# Altium integrated library Analog Devices Temperature Sensors.IntLib: 271 symbols (part 11 of 14)
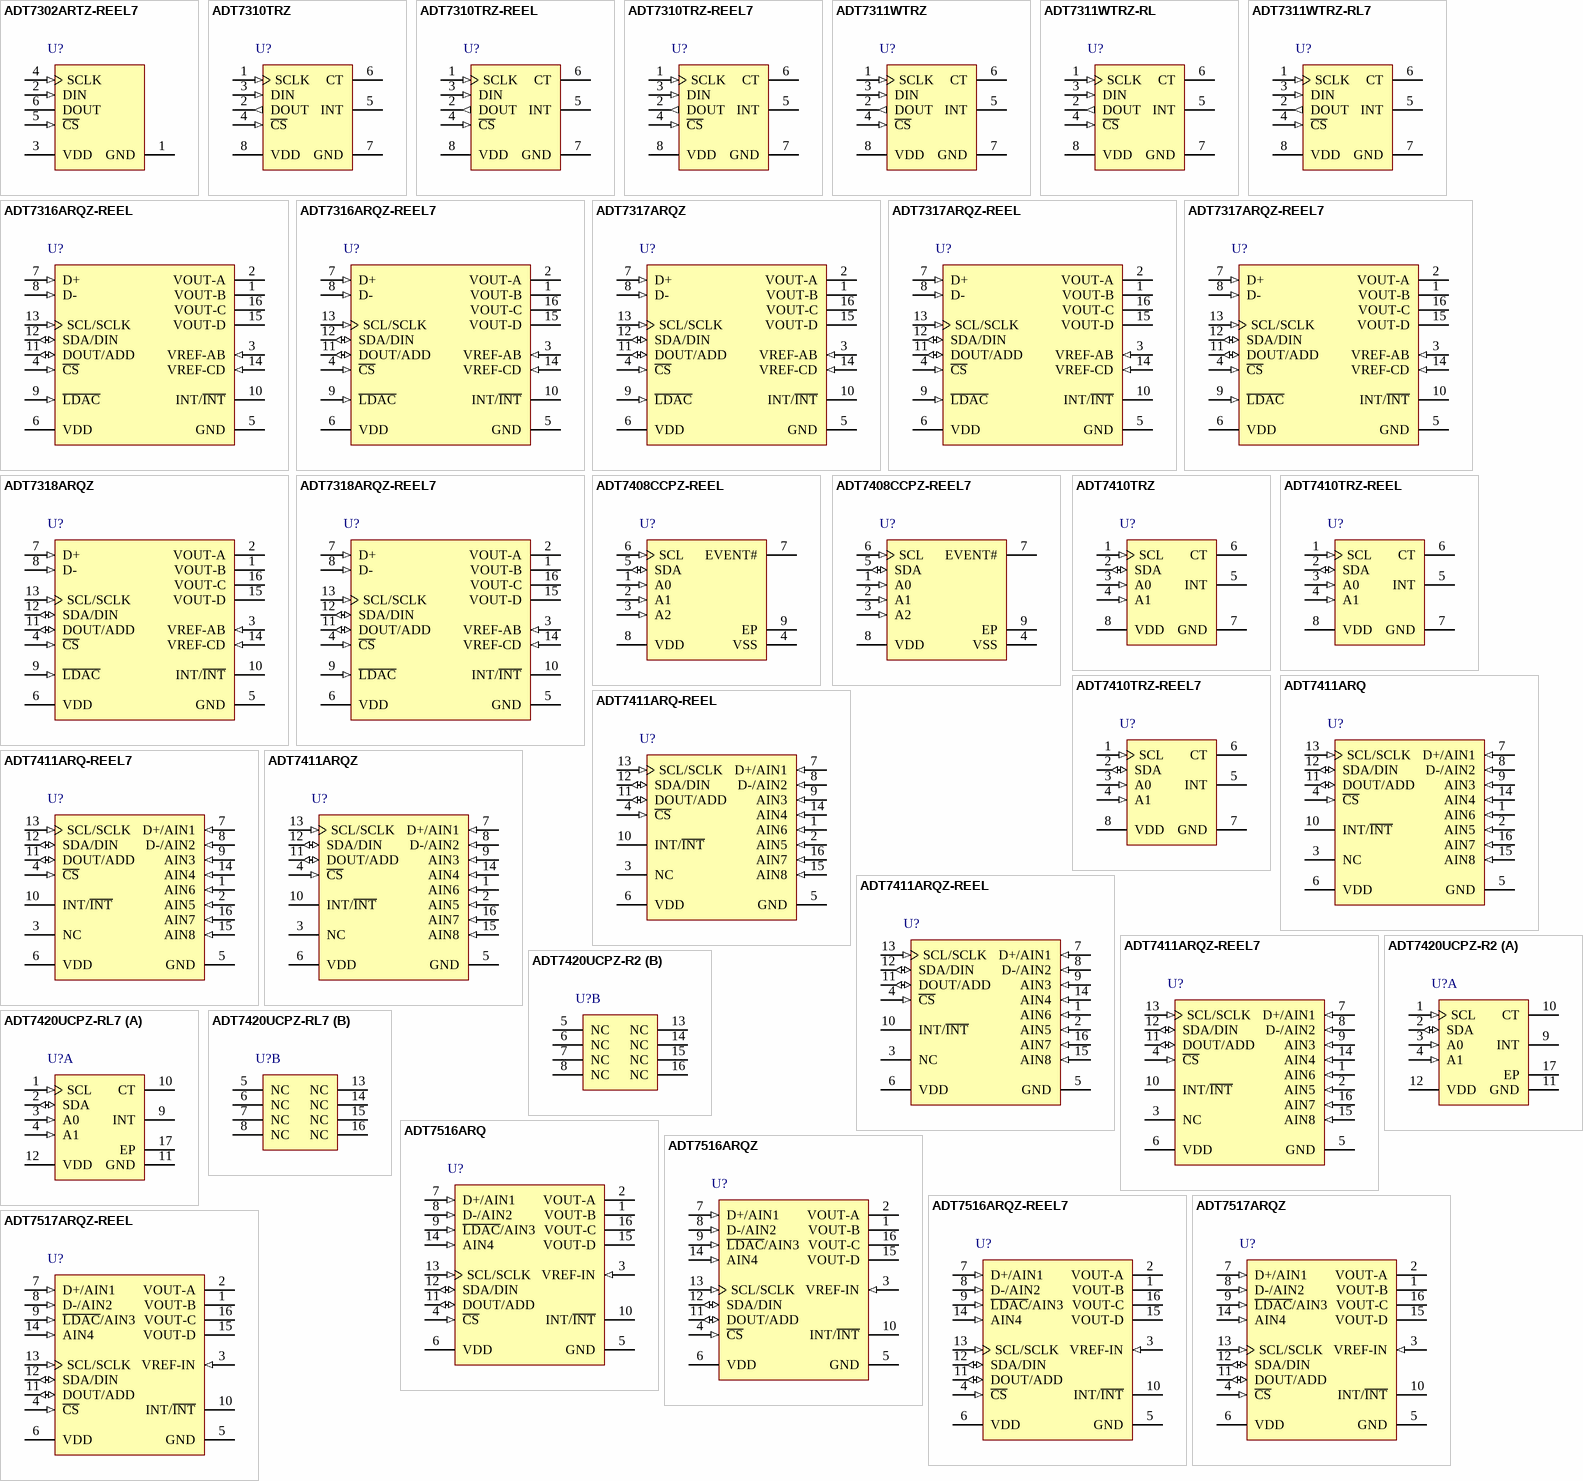
[diagram p17: symbols ADT7302ARTZ-REEL7 to ADT7517ARQZ-REEL]

## ADT7318ARQZ
designator U?
+/-0.5 degrees C Accurate Digital Temperature Sensor and Quad Voltage Output 8-Bit DAC, 2.7 to 5.5 V Supply, Industrial, 16-pin SOP (RQ-16), Tube; Manufacturer: Analog Devices; PartNumber: ADT7318ARQZ; #_ADC_channels: 1; #_DAC_channels: 4; DatasheetVersion: Rev. B; PackageVersion: 08/2005; PackageReference: RQ-16; PackageDescription: 16-Pin Shrink Small Outline Package, Body 4.9 x 3.9 mm, Pitch 0.64 mm; Supplier 1: Digi-Key; Supplier Part Number 1: ADT7318ARQZ-ND; Supplier 2: Mouser; Supplier Part Number 2: N/A; Packing: Tube; Supply Voltage Range: 2.7 to 5.5 V; Mounting Technology: Surface Mount; Code_JEDEC: MO-137-AB; ComponentLink1Description: Manufacturer URL; ComponentLink1URL: http://www.analog.com/en/index.html; ComponentLink2Description: Datasheet; ComponentLink2URL: http://www.analog.com/static/imported-files/data_sheets/ADT7316_7317_7318.pdf; ComponentLink3Description: Package Specification; ComponentLink3URL: http://www.analog.com/static/imported-files/packages/5595549651201762937RQ_16.pdf; ComponentLink4Description: Product URL; ComponentLink4URL: http://www.analog.com/en/mems-sensors/digital-temperature-sensors/adt7318/products/product.html
footprint ADI-RQ-16_N (SOP, 16-Leads, Body 4.9x3.9mm, Pitch 0.64mm, IPC Medium Density)
footprint ADI-RQ-16_L (SOP, 16-Leads, Body 4.9x3.9mm, Pitch 0.64mm, IPC High Density)
footprint ADI-RQ-16_M (SOP, 16-Leads, Body 4.9x3.9mm, Pitch 0.64mm, IPC Low Density)
pins: 1 VOUT-B (hiz) "Buffered Analog Output Voltage from DAC B. The output amplifier has rail-to-rail operation.", 2 VOUT-A (hiz) "Buffered Analog Output Voltage from DAC A. The output amplifier has rail-to-rail operation.", 3 VREF-AB (in) "Reference Input Pin for DAC A and DAC B. It may be configured as a buffered or unbuffered input to both DAC A and DAC B. It has an input range from 0.25 V to VDD in unbuffered mode and from 1 V to VDD in buffered mode. DAC A (See Datasheet)", 4 ~{CS} (in) "SPI Active Low Control Input. This is the frame synchronization signal for the input data. When C\S\ goes low, it enables the input register, and data is transferred in on the rising edges and out on the falling edges of the (See Datasheet)", 5 GND (power) "Ground Reference Point for All Circuitry on the Part. Analog and digital ground.", 6 VDD (power) "Positive Supply Voltage, 2.7 V to 5.5 V. The supply should be decoupled to ground.", 7 D+ (in) "Positive connection to external temperature sensor.", 8 D- (in) "Negative connection to external temperature sensor.", 9 ~{LDAC} (in) "Active low control input that transfers the contents of the input registers to their respective DAC registers. A falling edge on this pin forces any or all DAC registers to be updated if the input registers have new data. A (See Datasheet)", 10 INT/~{INT} (oc) "Over-Limit Interrupt. The output polarity of this pin can be set to give an active low or active high interrupt when temperature or VDD limits are exceeded. Default is active low. Open-drain output-needs a pull-up resistor.", 11 DOUT/ADD (io) "DOUT: SPI Serial Data Output. Logic output. Data is clocked out of any register at this pin. Data is clocked out on the falling edge of SCLK. Open-drain output-needs a pull-up resistor. ADD: I2C Serial Bus Address Selection (See Datasheet)", 12 SDA/DIN (io) "SDA: I2C Serial Data Input. I2C serial data that is loaded into the device registers is provided on this input. Open-drain configuration-needs a pull-up resistor. DIN: SPI Serial Data Input. Serial data to be loaded into the (See Datasheet)", 13 SCL/SCLK (in) "Serial Clock Input. This is the clock input for the serial port. The serial clock is used to clock data out of any register of the ADT7316/ADT7317/ADT7318 and also to clock data into any register that can be written to. (See Datasheet)", 14 VREF-CD (in) "Reference Input Pin for DAC C and DAC D. It can be configured as a buffered or unbuffered input to both DAC C and DAC D. It has an input range from 0.25 V to VDD in unbuffered mode and from 1 V to VDD in buffered mode. DAC C (See Datasheet)", 15 VOUT-D (hiz) "Buffered Analog Output Voltage from DAC D. The output amplifier has rail-to-rail operation.", 16 VOUT-C (hiz) "Buffered Analog Output Voltage from DAC C. The output amplifier has rail-to-rail operation."

## ADT7318ARQZ-REEL7
designator U?
+/-0.5 degrees C Accurate Digital Temperature Sensor and Quad Voltage Output 8-Bit DAC, 2.7 to 5.5 V Supply, Industrial, 16-pin SOP (RQ-16), Reel; Manufacturer: Analog Devices; PartNumber: ADT7318ARQZ-REEL7; #_ADC_channels: 1; #_DAC_channels: 4; DatasheetVersion: Rev. B; PackageVersion: 08/2005; PackageReference: RQ-16; PackageDescription: 16-Pin Shrink Small Outline Package, Body 4.9 x 3.9 mm, Pitch 0.64 mm; Supplier 1: Digi-Key; Supplier Part Number 1: ADT7318ARQZ-REEL7-ND; Supplier 2: Mouser; Supplier Part Number 2: N/A; Packing: Reel; Supply Voltage Range: 2.7 to 5.5 V; Mounting Technology: Surface Mount; Code_JEDEC: MO-137-AB; ComponentLink1Description: Manufacturer URL; ComponentLink1URL: http://www.analog.com/en/index.html; ComponentLink2Description: Datasheet; ComponentLink2URL: http://www.analog.com/static/imported-files/data_sheets/ADT7316_7317_7318.pdf; ComponentLink3Description: Package Specification; ComponentLink3URL: http://www.analog.com/static/imported-files/packages/5595549651201762937RQ_16.pdf; ComponentLink4Description: Product URL; ComponentLink4URL: http://www.analog.com/en/mems-sensors/digital-temperature-sensors/adt7318/products/product.html
footprint ADI-RQ-16_N (SOP, 16-Leads, Body 4.9x3.9mm, Pitch 0.64mm, IPC Medium Density)
footprint ADI-RQ-16_L (SOP, 16-Leads, Body 4.9x3.9mm, Pitch 0.64mm, IPC High Density)
footprint ADI-RQ-16_M (SOP, 16-Leads, Body 4.9x3.9mm, Pitch 0.64mm, IPC Low Density)
pins: 1 VOUT-B (hiz) "Buffered Analog Output Voltage from DAC B. The output amplifier has rail-to-rail operation.", 2 VOUT-A (hiz) "Buffered Analog Output Voltage from DAC A. The output amplifier has rail-to-rail operation.", 3 VREF-AB (in) "Reference Input Pin for DAC A and DAC B. It may be configured as a buffered or unbuffered input to both DAC A and DAC B. It has an input range from 0.25 V to VDD in unbuffered mode and from 1 V to VDD in buffered mode. DAC A (See Datasheet)", 4 ~{CS} (in) "SPI Active Low Control Input. This is the frame synchronization signal for the input data. When C\S\ goes low, it enables the input register, and data is transferred in on the rising edges and out on the falling edges of the (See Datasheet)", 5 GND (power) "Ground Reference Point for All Circuitry on the Part. Analog and digital ground.", 6 VDD (power) "Positive Supply Voltage, 2.7 V to 5.5 V. The supply should be decoupled to ground.", 7 D+ (in) "Positive connection to external temperature sensor.", 8 D- (in) "Negative connection to external temperature sensor.", 9 ~{LDAC} (in) "Active low control input that transfers the contents of the input registers to their respective DAC registers. A falling edge on this pin forces any or all DAC registers to be updated if the input registers have new data. A (See Datasheet)", 10 INT/~{INT} (oc) "Over-Limit Interrupt. The output polarity of this pin can be set to give an active low or active high interrupt when temperature or VDD limits are exceeded. Default is active low. Open-drain output-needs a pull-up resistor.", 11 DOUT/ADD (io) "DOUT: SPI Serial Data Output. Logic output. Data is clocked out of any register at this pin. Data is clocked out on the falling edge of SCLK. Open-drain output-needs a pull-up resistor. ADD: I2C Serial Bus Address Selection (See Datasheet)", 12 SDA/DIN (io) "SDA: I2C Serial Data Input. I2C serial data that is loaded into the device registers is provided on this input. Open-drain configuration-needs a pull-up resistor. DIN: SPI Serial Data Input. Serial data to be loaded into the (See Datasheet)", 13 SCL/SCLK (in) "Serial Clock Input. This is the clock input for the serial port. The serial clock is used to clock data out of any register of the ADT7316/ADT7317/ADT7318 and also to clock data into any register that can be written to. (See Datasheet)", 14 VREF-CD (in) "Reference Input Pin for DAC C and DAC D. It can be configured as a buffered or unbuffered input to both DAC C and DAC D. It has an input range from 0.25 V to VDD in unbuffered mode and from 1 V to VDD in buffered mode. DAC C (See Datasheet)", 15 VOUT-D (hiz) "Buffered Analog Output Voltage from DAC D. The output amplifier has rail-to-rail operation.", 16 VOUT-C (hiz) "Buffered Analog Output Voltage from DAC C. The output amplifier has rail-to-rail operation."

## ADT7408CCPZ-REEL
designator U?
+/-2 degrees C Accurate, 12-Bit Digital Temperature Sensor, 3 to 3.6 V Supply, Industrial, 8-pin QFN (CP-8-2), Reel; Manufacturer: Analog Devices; PartNumber: ADT7408CCPZ-REEL; DatasheetVersion: Rev. 0; PackageVersion: 061507-B, 06/2007; PackageReference: CP-8-2; PackageDescription: 8-Pin Lead Frame Chip Scale Package, Body 3 x 3 mm, Pitch 0.5 mm; Supplier 1: Digi-Key; Supplier Part Number 1: ADT7408CCPZ-REEL-ND; Supplier 2: Mouser; Supplier Part Number 2: 584-ADT7408CCPZ-R; Packing: Reel; Supply Voltage Range: 3 to 3.6 V; Mounting Technology: Surface Mount; ComponentLink1Description: Manufacturer URL; ComponentLink1URL: http://www.analog.com/en/index.html; ComponentLink2Description: Datasheet; ComponentLink2URL: http://www.analog.com/static/imported-files/data_sheets/ADT7408.pdf; ComponentLink3Description: Package Specification; ComponentLink3URL: http://www.analog.com/static/imported-files/packages/56953322593982CP_8_2.pdf; ComponentLink4Description: Product URL; ComponentLink4URL: http://www.analog.com/en/mems-sensors/digital-temperature-sensors/adt7408/products/product.html
footprint ADI-CP-8-2_N (QFN, 8-Leads, Body 3x3mm, Pitch 0.5mm, Thermal Pad 1.45X1.74mm, IPC Medium Density)
footprint ADI-CP-8-2_L (QFN, 8-Leads, Body 3x3mm, Pitch 0.5mm, Thermal Pad 1.45X1.74mm, IPC High Density)
footprint ADI-CP-8-2_M (QFN, 8-Leads, Body 3x3mm, Pitch 0.5mm, Thermal Pad 1.45X1.74mm, IPC Low Density)
pins: 1 A0 (in) "SMBus/I2C Serial Bus Address Selection Pin. Logic input. Can be set to VSS or VDD.", 2 A1 (in) "SMBus/I2C Serial Bus Address Selection Pin. Logic input. Can be set to VSS or VDD.", 3 A2 (in) "SMBus/I2C Serial Bus Address Selection Pin. Logic input. Can be set to VSS or VDD.", 4 VSS (power) "Negative Supply or Ground.", 5 SDA (io) "SMBus/I2C Serial Data Input/Output. Serial data to be loaded into the part’s registers and read from these registers is provided on this pin. Open-drain configuration; it needs a pull-up resistor.", 6 SCL (in) "Serial Clock Input. This is the clock input for the serial port. The serial clock is used to clock data into and clock dataout from any register of the ADT7408. Open-drain configuration needs a pull-up resistor.", 7 EVENT# (oc) "Active Low. Open-drain event output pin. Driven low on comparator level or alert interrupt.", 8 VDD (power) "Positive Supply Power. The supply should be decoupled to ground.", 9 EP "EXPOSED PAD"

## ADT7408CCPZ-REEL7
designator U?
+/-2 degrees C Accurate, 12-Bit Digital Temperature Sensor, 3 to 3.6 V Supply, Industrial, 8-pin QFN (CP-8-2), Reel; Manufacturer: Analog Devices; PartNumber: ADT7408CCPZ-REEL7; DatasheetVersion: Rev. 0; PackageVersion: 061507-B, 06/2007; PackageReference: CP-8-2; PackageDescription: 8-Pin Lead Frame Chip Scale Package, Body 3 x 3 mm, Pitch 0.5 mm; Supplier 1: Digi-Key; Supplier Part Number 1: ADT7408CCPZ-REEL7TR-ND; Supplier 2: Digi-Key; Supplier Part Number 2: ADT7408CCPZ-REEL7CT-ND; Supplier 3: Digi-Key; Supplier Part Number 3: ADT7408CCPZ-REEL7DKR-ND; Supplier 4: Newark; Supplier Part Number 4: 12M8291; Supplier 5: Mouser; Supplier Part Number 5: 584-ADT7408CCPZ-R7; Packing: Reel; Supply Voltage Range: 3 to 3.6 V; Mounting Technology: Surface Mount; ComponentLink1Description: Manufacturer URL; ComponentLink1URL: http://www.analog.com/en/index.html; ComponentLink2Description: Datasheet; ComponentLink2URL: http://www.analog.com/static/imported-files/data_sheets/ADT7408.pdf; ComponentLink3Description: Package Specification; ComponentLink3URL: http://www.analog.com/static/imported-files/packages/56953322593982CP_8_2.pdf; ComponentLink4Description: Product URL; ComponentLink4URL: http://www.analog.com/en/mems-sensors/digital-temperature-sensors/adt7408/products/product.html
footprint ADI-CP-8-2_N (QFN, 8-Leads, Body 3x3mm, Pitch 0.5mm, Thermal Pad 1.45X1.74mm, IPC Medium Density)
footprint ADI-CP-8-2_L (QFN, 8-Leads, Body 3x3mm, Pitch 0.5mm, Thermal Pad 1.45X1.74mm, IPC High Density)
footprint ADI-CP-8-2_M (QFN, 8-Leads, Body 3x3mm, Pitch 0.5mm, Thermal Pad 1.45X1.74mm, IPC Low Density)
pins: 1 A0 (in) "SMBus/I2C Serial Bus Address Selection Pin. Logic input. Can be set to VSS or VDD.", 2 A1 (in) "SMBus/I2C Serial Bus Address Selection Pin. Logic input. Can be set to VSS or VDD.", 3 A2 (in) "SMBus/I2C Serial Bus Address Selection Pin. Logic input. Can be set to VSS or VDD.", 4 VSS (power) "Negative Supply or Ground.", 5 SDA (io) "SMBus/I2C Serial Data Input/Output. Serial data to be loaded into the part’s registers and read from these registers is provided on this pin. Open-drain configuration; it needs a pull-up resistor.", 6 SCL (in) "Serial Clock Input. This is the clock input for the serial port. The serial clock is used to clock data into and clock dataout from any register of the ADT7408. Open-drain configuration needs a pull-up resistor.", 7 EVENT# (oc) "Active Low. Open-drain event output pin. Driven low on comparator level or alert interrupt.", 8 VDD (power) "Positive Supply Power. The supply should be decoupled to ground.", 9 EP "EXPOSED PAD"

## ADT7410TRZ
designator U?
+/-0.5 degrees C Accurate, 16-Bit Digital I2C Temperature Sensor, 2.7 to 5.5 V Supply, Military, 8-pin SOIC (R-8), Tube; Manufacturer: Analog Devices; PartNumber: ADT7410TRZ; DatasheetVersion: Rev. A; PackageVersion: 060506-A, 06/2006; PackageReference: R-8; PackageDescription: 8-Pin Standard Small Outline Package, Body 4.9 x 3.9 mm, Pitch 1.27 mm; Supplier 1: Digi-Key; Supplier Part Number 1: ADT7410TRZ-ND; Supplier 2: Farnell; Supplier Part Number 2: 2102534; Supplier 3: Newark; Supplier Part Number 3: 08R6646; Supplier 4: Mouser; Supplier Part Number 4: 584-ADT7410TRZ; Packing: Tube; Supply Voltage Range: 2.7 to 5.5 V; Mounting Technology: Surface Mount; Code_JEDEC: MS-012-AA; ComponentLink1Description: Manufacturer URL; ComponentLink1URL: http://www.analog.com/en/index.html; ComponentLink2Description: Datasheet; ComponentLink2URL: http://www.analog.com/static/imported-files/data_sheets/ADT7410.pdf; ComponentLink3Description: Package Specification; ComponentLink3URL: http://www.analog.com/static/imported-files/packages/PKG_PDF/SOIC_Narrow%20(R)/R_8.pdf; ComponentLink4Description: Product URL; ComponentLink4URL: http://www.analog.com/en/mems-sensors/digital-temperature-sensors/adt7410/products/product.html
footprint ADI-R-8_N (SOIC, 8-Leads, Body 4.9x3.9mm, Pitch 1.27mm, IPC Medium Density)
footprint ADI-R-8_L (SOIC, 8-Leads, Body 4.9x3.9mm, Pitch 1.27mm, IPC High Density)
footprint ADI-R-8_M (SOIC, 8-Leads, Body 4.9x3.9mm, Pitch 1.27mm, IPC Low Density)
pins: 1 SCL (in) "I2C Serial Clock Input. The serial clock is used to clock in and clock out data to and from any register of the ADT7410. Open-drain configuration. A pull-up resistor is required, typically 10 k ohm.", 2 SDA (io) "I2C Serial Data Input/Output. Serial data to and from the part is provided on this pin. Open-drain configuration. A pull-up resistor is required, typically 10 k ohm.", 3 A0 (in) "I2C Serial Bus Address Selection Pin. Logic input. Connect to GND or VDD to set an I2C address.", 4 A1 (in) "I2C Serial Bus Address Selection Pin. Logic input. Connect to GND or VDD to set an I2C address.", 5 INT (oc) "Overtemperature and Undertemperature Indicator. Logic output. Power-up default setting is as an active low comparator interrupt. Open-drain configuration. A pull-up resistor is required, typically 10 k ohm.", 6 CT (oc) "Critical Overtemperature Indicator. Logic output. Power-up default polarity is active low. Open-drain configuration. A pull-up resistor is required, typically 10 k ohm.", 7 GND (power) "Analog and Digital Ground.", 8 VDD (power) "Positive Supply Voltage (2.7 V to 5.5 V). The supply should be decoupled with a 0.1 uF ceramic capacitor to ground."

## ADT7410TRZ-REEL
designator U?
+/-0.5 degrees C Accurate, 16-Bit Digital I2C Temperature Sensor, 2.7 to 5.5 V Supply, Military, 8-pin SOIC (R-8), Reel; Manufacturer: Analog Devices; PartNumber: ADT7410TRZ-REEL; DatasheetVersion: Rev. A; PackageVersion: 060506-A, 06/2006; PackageReference: R-8; PackageDescription: 8-Pin Standard Small Outline Package, Body 4.9 x 3.9 mm, Pitch 1.27 mm; Supplier 1: Digi-Key; Supplier Part Number 1: ADT7410TRZ-REEL-ND; Supplier 2: Newark; Supplier Part Number 2: 08R6647; Supplier 3: Mouser; Supplier Part Number 3: 584-ADT7410TRZ-R; Packing: Reel; Supply Voltage Range: 2.7 to 5.5 V; Mounting Technology: Surface Mount; Code_JEDEC: MS-012-AA; ComponentLink1Description: Manufacturer URL; ComponentLink1URL: http://www.analog.com/en/index.html; ComponentLink2Description: Datasheet; ComponentLink2URL: http://www.analog.com/static/imported-files/data_sheets/ADT7410.pdf; ComponentLink3Description: Package Specification; ComponentLink3URL: http://www.analog.com/static/imported-files/packages/PKG_PDF/SOIC_Narrow%20(R)/R_8.pdf; ComponentLink4Description: Product URL; ComponentLink4URL: http://www.analog.com/en/mems-sensors/digital-temperature-sensors/adt7410/products/product.html
footprint ADI-R-8_N (SOIC, 8-Leads, Body 4.9x3.9mm, Pitch 1.27mm, IPC Medium Density)
footprint ADI-R-8_L (SOIC, 8-Leads, Body 4.9x3.9mm, Pitch 1.27mm, IPC High Density)
footprint ADI-R-8_M (SOIC, 8-Leads, Body 4.9x3.9mm, Pitch 1.27mm, IPC Low Density)
pins: 1 SCL (in) "I2C Serial Clock Input. The serial clock is used to clock in and clock out data to and from any register of the ADT7410. Open-drain configuration. A pull-up resistor is required, typically 10 k ohm.", 2 SDA (io) "I2C Serial Data Input/Output. Serial data to and from the part is provided on this pin. Open-drain configuration. A pull-up resistor is required, typically 10 k ohm.", 3 A0 (in) "I2C Serial Bus Address Selection Pin. Logic input. Connect to GND or VDD to set an I2C address.", 4 A1 (in) "I2C Serial Bus Address Selection Pin. Logic input. Connect to GND or VDD to set an I2C address.", 5 INT (oc) "Overtemperature and Undertemperature Indicator. Logic output. Power-up default setting is as an active low comparator interrupt. Open-drain configuration. A pull-up resistor is required, typically 10 k ohm.", 6 CT (oc) "Critical Overtemperature Indicator. Logic output. Power-up default polarity is active low. Open-drain configuration. A pull-up resistor is required, typically 10 k ohm.", 7 GND (power) "Analog and Digital Ground.", 8 VDD (power) "Positive Supply Voltage (2.7 V to 5.5 V). The supply should be decoupled with a 0.1 uF ceramic capacitor to ground."

## ADT7410TRZ-REEL7
designator U?
+/-0.5 degrees C Accurate, 16-Bit Digital I2C Temperature Sensor, 2.7 to 5.5 V Supply, Military, 8-pin SOIC (R-8), Reel; Manufacturer: Analog Devices; PartNumber: ADT7410TRZ-REEL7; DatasheetVersion: Rev. A; PackageVersion: 060506-A, 06/2006; PackageReference: R-8; PackageDescription: 8-Pin Standard Small Outline Package, Body 4.9 x 3.9 mm, Pitch 1.27 mm; Supplier 1: Digi-Key; Supplier Part Number 1: ADT7410TRZ-REEL7TR-ND; Supplier 2: Digi-Key; Supplier Part Number 2: ADT7410TRZ-REEL7CT-ND; Supplier 3: Digi-Key; Supplier Part Number 3: ADT7410TRZ-REEL7DKR-ND; Supplier 4: Newark; Supplier Part Number 4: 08R6648; Supplier 5: Mouser; Supplier Part Number 5: 584-ADT7410TRZ-R7; Packing: Reel; Supply Voltage Range: 2.7 to 5.5 V; Mounting Technology: Surface Mount; Code_JEDEC: MS-012-AA; ComponentLink1Description: Manufacturer URL; ComponentLink1URL: http://www.analog.com/en/index.html; ComponentLink2Description: Datasheet; ComponentLink2URL: http://www.analog.com/static/imported-files/data_sheets/ADT7410.pdf; ComponentLink3Description: Package Specification; ComponentLink3URL: http://www.analog.com/static/imported-files/packages/PKG_PDF/SOIC_Narrow%20(R)/R_8.pdf; ComponentLink4Description: Product URL; ComponentLink4URL: http://www.analog.com/en/mems-sensors/digital-temperature-sensors/adt7410/products/product.html
footprint ADI-R-8_N (SOIC, 8-Leads, Body 4.9x3.9mm, Pitch 1.27mm, IPC Medium Density)
footprint ADI-R-8_L (SOIC, 8-Leads, Body 4.9x3.9mm, Pitch 1.27mm, IPC High Density)
footprint ADI-R-8_M (SOIC, 8-Leads, Body 4.9x3.9mm, Pitch 1.27mm, IPC Low Density)
pins: 1 SCL (in) "I2C Serial Clock Input. The serial clock is used to clock in and clock out data to and from any register of the ADT7410. Open-drain configuration. A pull-up resistor is required, typically 10 k ohm.", 2 SDA (io) "I2C Serial Data Input/Output. Serial data to and from the part is provided on this pin. Open-drain configuration. A pull-up resistor is required, typically 10 k ohm.", 3 A0 (in) "I2C Serial Bus Address Selection Pin. Logic input. Connect to GND or VDD to set an I2C address.", 4 A1 (in) "I2C Serial Bus Address Selection Pin. Logic input. Connect to GND or VDD to set an I2C address.", 5 INT (oc) "Overtemperature and Undertemperature Indicator. Logic output. Power-up default setting is as an active low comparator interrupt. Open-drain configuration. A pull-up resistor is required, typically 10 k ohm.", 6 CT (oc) "Critical Overtemperature Indicator. Logic output. Power-up default polarity is active low. Open-drain configuration. A pull-up resistor is required, typically 10 k ohm.", 7 GND (power) "Analog and Digital Ground.", 8 VDD (power) "Positive Supply Voltage (2.7 V to 5.5 V). The supply should be decoupled with a 0.1 uF ceramic capacitor to ground."

## ADT7411ARQ
designator U?
SPI / I2C Compatible, 10-Bit Digital Temperature Sensor and 8-Channel A / D Converter, 2.7 to 5.5 V Supply, Industrial, 16-pin SOP (RQ-16), Tube; Manufacturer: Analog Devices; PartNumber: ADT7411ARQ; #_ADC_channels: 8; DatasheetVersion: Rev. B; PackageVersion: 08/2005; PackageReference: RQ-16; PackageDescription: 16-Pin Shrink Small Outline Package, Body 4.9 x 3.9 mm, Pitch 0.64 mm; Supplier 1: Digi-Key; Supplier Part Number 1: ADT7411ARQ-ND; Supplier 2: Mouser; Supplier Part Number 2: 584-ADT7411ARQ; Packing: Tube; Supply Voltage Range: 2.7 to 5.5 V; Mounting Technology: Surface Mount; Code_JEDEC: MO-137-AB; ComponentLink1Description: Manufacturer URL; ComponentLink1URL: http://www.analog.com/en/index.html; ComponentLink2Description: Datasheet; ComponentLink2URL: http://www.analog.com/static/imported-files/data_sheets/ADT7411.pdf; ComponentLink3Description: Package Specification; ComponentLink3URL: http://www.analog.com/static/imported-files/packages/5595549651201762937RQ_16.pdf; ComponentLink4Description: Product URL; ComponentLink4URL: http://www.analog.com/en/mems-sensors/digital-temperature-sensors/adt7411/products/product.html
footprint ADI-RQ-16_N (SOP, 16-Leads, Body 4.9x3.9mm, Pitch 0.64mm, IPC Medium Density)
footprint ADI-RQ-16_L (SOP, 16-Leads, Body 4.9x3.9mm, Pitch 0.64mm, IPC High Density)
footprint ADI-RQ-16_M (SOP, 16-Leads, Body 4.9x3.9mm, Pitch 0.64mm, IPC Low Density)
pins: 1 AIN6 (in) "Analog Input. Single-ended analog input channel. Input range is 0 V to 2.25 V or 0 V to VDD.", 2 AIN5 (in) "Analog Input. Single-ended analog input channel. Input range is 0 V to 2.25 V or 0 V to VDD.", 3 NC "No Connection.", 4 ~{CS} (in) "SPI-Active Low Control Input. This is the frame synchronization signal for the input data. When C\S\ goes low, it enables the input register and data is transferred in on the rising edges and out on the falling edges of the (See Datasheet)", 5 GND (power) "Ground Reference Point for All Circuitry on the Part. Analog and digital ground.", 6 VDD (power) "Positive Supply Voltage, 2.7 V to 5.5 V. The supply should be decoupled to ground.", 7 D+/AIN1 (in), 8 D-/AIN2 (in), 9 AIN3 (in) "Analog Input. Single-ended analog input channel. Input range is 0 V to 2.25 V or 0 V to VDD.", 10 INT/~{INT} (oc), 11 DOUT/ADD (io), 12 SDA/DIN (io), 13 SCL/SCLK (in), 14 AIN4 (in) "Analog Input. Single-ended analog input channel. Input range is 0 V to 2.25 V or 0 V to VDD.", 15 AIN8 (in) "Analog Input. Single-ended analog input channel. Input range is 0 V to 2.25 V or 0 V to VDD.", 16 AIN7 (in) "Analog Input. Single-ended analog input channel. Input range is 0 V to 2.25 V or 0 V to VDD."

## ADT7411ARQ-REEL
designator U?
SPI / I2C Compatible, 10-Bit Digital Temperature Sensor and 8-Channel A / D Converter, 2.7 to 5.5 V Supply, Industrial, 16-pin SOP (RQ-16), Reel; Manufacturer: Analog Devices; PartNumber: ADT7411ARQ-REEL; #_ADC_channels: 8; DatasheetVersion: Rev. B; PackageVersion: 08/2005; PackageReference: RQ-16; PackageDescription: 16-Pin Shrink Small Outline Package, Body 4.9 x 3.9 mm, Pitch 0.64 mm; Supplier 1: Digi-Key; Supplier Part Number 1: ADT7411ARQ-REEL-ND; Supplier 2: Mouser; Supplier Part Number 2: 584-ADT7411ARQ-R; Packing: Reel; Supply Voltage Range: 2.7 to 5.5 V; Mounting Technology: Surface Mount; Code_JEDEC: MO-137-AB; ComponentLink1Description: Manufacturer URL; ComponentLink1URL: http://www.analog.com/en/index.html; ComponentLink2Description: Datasheet; ComponentLink2URL: http://www.analog.com/static/imported-files/data_sheets/ADT7411.pdf; ComponentLink3Description: Package Specification; ComponentLink3URL: http://www.analog.com/static/imported-files/packages/5595549651201762937RQ_16.pdf; ComponentLink4Description: Product URL; ComponentLink4URL: http://www.analog.com/en/mems-sensors/digital-temperature-sensors/adt7411/products/product.html
footprint ADI-RQ-16_N (SOP, 16-Leads, Body 4.9x3.9mm, Pitch 0.64mm, IPC Medium Density)
footprint ADI-RQ-16_L (SOP, 16-Leads, Body 4.9x3.9mm, Pitch 0.64mm, IPC High Density)
footprint ADI-RQ-16_M (SOP, 16-Leads, Body 4.9x3.9mm, Pitch 0.64mm, IPC Low Density)
pins: 1 AIN6 (in) "Analog Input. Single-ended analog input channel. Input range is 0 V to 2.25 V or 0 V to VDD.", 2 AIN5 (in) "Analog Input. Single-ended analog input channel. Input range is 0 V to 2.25 V or 0 V to VDD.", 3 NC "No Connection.", 4 ~{CS} (in) "SPI-Active Low Control Input. This is the frame synchronization signal for the input data. When C\S\ goes low, it enables the input register and data is transferred in on the rising edges and out on the falling edges of the (See Datasheet)", 5 GND (power) "Ground Reference Point for All Circuitry on the Part. Analog and digital ground.", 6 VDD (power) "Positive Supply Voltage, 2.7 V to 5.5 V. The supply should be decoupled to ground.", 7 D+/AIN1 (in), 8 D-/AIN2 (in), 9 AIN3 (in) "Analog Input. Single-ended analog input channel. Input range is 0 V to 2.25 V or 0 V to VDD.", 10 INT/~{INT} (oc), 11 DOUT/ADD (io), 12 SDA/DIN (io), 13 SCL/SCLK (in), 14 AIN4 (in) "Analog Input. Single-ended analog input channel. Input range is 0 V to 2.25 V or 0 V to VDD.", 15 AIN8 (in) "Analog Input. Single-ended analog input channel. Input range is 0 V to 2.25 V or 0 V to VDD.", 16 AIN7 (in) "Analog Input. Single-ended analog input channel. Input range is 0 V to 2.25 V or 0 V to VDD."

## ADT7411ARQ-REEL7
designator U?
SPI / I2C Compatible, 10-Bit Digital Temperature Sensor and 8-Channel A / D Converter, 2.7 to 5.5 V Supply, Industrial, 16-pin SOP (RQ-16), Reel; Manufacturer: Analog Devices; PartNumber: ADT7411ARQ-REEL7; #_ADC_channels: 8; DatasheetVersion: Rev. B; PackageVersion: 08/2005; PackageReference: RQ-16; PackageDescription: 16-Pin Shrink Small Outline Package, Body 4.9 x 3.9 mm, Pitch 0.64 mm; Supplier 1: Digi-Key; Supplier Part Number 1: ADT7411ARQ-REEL7-ND; Supplier 2: Mouser; Supplier Part Number 2: 584-ADT7411ARQ-R7; Packing: Reel; Supply Voltage Range: 2.7 to 5.5 V; Mounting Technology: Surface Mount; Code_JEDEC: MO-137-AB; ComponentLink1Description: Manufacturer URL; ComponentLink1URL: http://www.analog.com/en/index.html; ComponentLink2Description: Datasheet; ComponentLink2URL: http://www.analog.com/static/imported-files/data_sheets/ADT7411.pdf; ComponentLink3Description: Package Specification; ComponentLink3URL: http://www.analog.com/static/imported-files/packages/5595549651201762937RQ_16.pdf; ComponentLink4Description: Product URL; ComponentLink4URL: http://www.analog.com/en/mems-sensors/digital-temperature-sensors/adt7411/products/product.html
footprint ADI-RQ-16_N (SOP, 16-Leads, Body 4.9x3.9mm, Pitch 0.64mm, IPC Medium Density)
footprint ADI-RQ-16_L (SOP, 16-Leads, Body 4.9x3.9mm, Pitch 0.64mm, IPC High Density)
footprint ADI-RQ-16_M (SOP, 16-Leads, Body 4.9x3.9mm, Pitch 0.64mm, IPC Low Density)
pins: 1 AIN6 (in) "Analog Input. Single-ended analog input channel. Input range is 0 V to 2.25 V or 0 V to VDD.", 2 AIN5 (in) "Analog Input. Single-ended analog input channel. Input range is 0 V to 2.25 V or 0 V to VDD.", 3 NC "No Connection.", 4 ~{CS} (in) "SPI-Active Low Control Input. This is the frame synchronization signal for the input data. When C\S\ goes low, it enables the input register and data is transferred in on the rising edges and out on the falling edges of the (See Datasheet)", 5 GND (power) "Ground Reference Point for All Circuitry on the Part. Analog and digital ground.", 6 VDD (power) "Positive Supply Voltage, 2.7 V to 5.5 V. The supply should be decoupled to ground.", 7 D+/AIN1 (in), 8 D-/AIN2 (in), 9 AIN3 (in) "Analog Input. Single-ended analog input channel. Input range is 0 V to 2.25 V or 0 V to VDD.", 10 INT/~{INT} (oc), 11 DOUT/ADD (io), 12 SDA/DIN (io), 13 SCL/SCLK (in), 14 AIN4 (in) "Analog Input. Single-ended analog input channel. Input range is 0 V to 2.25 V or 0 V to VDD.", 15 AIN8 (in) "Analog Input. Single-ended analog input channel. Input range is 0 V to 2.25 V or 0 V to VDD.", 16 AIN7 (in) "Analog Input. Single-ended analog input channel. Input range is 0 V to 2.25 V or 0 V to VDD."

## ADT7411ARQZ
designator U?
SPI / I2C Compatible, 10-Bit Digital Temperature Sensor and 8-Channel A / D Converter, 2.7 to 5.5 V Supply, Industrial, 16-pin SOP (RQ-16), Tube; Manufacturer: Analog Devices; PartNumber: ADT7411ARQZ; #_ADC_channels: 8; DatasheetVersion: Rev. B; PackageVersion: 08/2005; PackageReference: RQ-16; PackageDescription: 16-Pin Shrink Small Outline Package, Body 4.9 x 3.9 mm, Pitch 0.64 mm; Supplier 1: Digi-Key; Supplier Part Number 1: ADT7411ARQZ-ND; Supplier 2: Farnell; Supplier Part Number 2: 1439053; Supplier 3: Newark; Supplier Part Number 3: 15P0564; Supplier 4: Newark; Supplier Part Number 4: 19M8742; Supplier 5: Mouser; Supplier Part Number 5: 584-ADT7411ARQZ; Packing: Tube; Supply Voltage Range: 2.7 to 5.5 V; Mounting Technology: Surface Mount; Code_JEDEC: MO-137-AB; ComponentLink1Description: Manufacturer URL; ComponentLink1URL: http://www.analog.com/en/index.html; ComponentLink2Description: Datasheet; ComponentLink2URL: http://www.analog.com/static/imported-files/data_sheets/ADT7411.pdf; ComponentLink3Description: Package Specification; ComponentLink3URL: http://www.analog.com/static/imported-files/packages/5595549651201762937RQ_16.pdf; ComponentLink4Description: Product URL; ComponentLink4URL: http://www.analog.com/en/mems-sensors/digital-temperature-sensors/adt7411/products/product.html
footprint ADI-RQ-16_N (SOP, 16-Leads, Body 4.9x3.9mm, Pitch 0.64mm, IPC Medium Density)
footprint ADI-RQ-16_L (SOP, 16-Leads, Body 4.9x3.9mm, Pitch 0.64mm, IPC High Density)
footprint ADI-RQ-16_M (SOP, 16-Leads, Body 4.9x3.9mm, Pitch 0.64mm, IPC Low Density)
pins: 1 AIN6 (in) "Analog Input. Single-ended analog input channel. Input range is 0 V to 2.25 V or 0 V to VDD.", 2 AIN5 (in) "Analog Input. Single-ended analog input channel. Input range is 0 V to 2.25 V or 0 V to VDD.", 3 NC "No Connection.", 4 ~{CS} (in) "SPI-Active Low Control Input. This is the frame synchronization signal for the input data. When C\S\ goes low, it enables the input register and data is transferred in on the rising edges and out on the falling edges of the (See Datasheet)", 5 GND (power) "Ground Reference Point for All Circuitry on the Part. Analog and digital ground.", 6 VDD (power) "Positive Supply Voltage, 2.7 V to 5.5 V. The supply should be decoupled to ground.", 7 D+/AIN1 (in), 8 D-/AIN2 (in), 9 AIN3 (in) "Analog Input. Single-ended analog input channel. Input range is 0 V to 2.25 V or 0 V to VDD.", 10 INT/~{INT} (oc), 11 DOUT/ADD (io), 12 SDA/DIN (io), 13 SCL/SCLK (in), 14 AIN4 (in) "Analog Input. Single-ended analog input channel. Input range is 0 V to 2.25 V or 0 V to VDD.", 15 AIN8 (in) "Analog Input. Single-ended analog input channel. Input range is 0 V to 2.25 V or 0 V to VDD.", 16 AIN7 (in) "Analog Input. Single-ended analog input channel. Input range is 0 V to 2.25 V or 0 V to VDD."

## ADT7411ARQZ-REEL
designator U?
SPI / I2C Compatible, 10-Bit Digital Temperature Sensor and 8-Channel A / D Converter, 2.7 to 5.5 V Supply, Industrial, 16-pin SOP (RQ-16), Reel; Manufacturer: Analog Devices; PartNumber: ADT7411ARQZ-REEL; #_ADC_channels: 8; DatasheetVersion: Rev. B; PackageVersion: 08/2005; PackageReference: RQ-16; PackageDescription: 16-Pin Shrink Small Outline Package, Body 4.9 x 3.9 mm, Pitch 0.64 mm; Supplier 1: Digi-Key; Supplier Part Number 1: ADT7411ARQZ-REEL-ND; Supplier 2: Newark; Supplier Part Number 2: 59K3067; Supplier 3: Mouser; Supplier Part Number 3: 584-ADT7411ARQZ-R; Packing: Reel; Supply Voltage Range: 2.7 to 5.5 V; Mounting Technology: Surface Mount; Code_JEDEC: MO-137-AB; ComponentLink1Description: Manufacturer URL; ComponentLink1URL: http://www.analog.com/en/index.html; ComponentLink2Description: Datasheet; ComponentLink2URL: http://www.analog.com/static/imported-files/data_sheets/ADT7411.pdf; ComponentLink3Description: Package Specification; ComponentLink3URL: http://www.analog.com/static/imported-files/packages/5595549651201762937RQ_16.pdf; ComponentLink4Description: Product URL; ComponentLink4URL: http://www.analog.com/en/mems-sensors/digital-temperature-sensors/adt7411/products/product.html
footprint ADI-RQ-16_N (SOP, 16-Leads, Body 4.9x3.9mm, Pitch 0.64mm, IPC Medium Density)
footprint ADI-RQ-16_L (SOP, 16-Leads, Body 4.9x3.9mm, Pitch 0.64mm, IPC High Density)
footprint ADI-RQ-16_M (SOP, 16-Leads, Body 4.9x3.9mm, Pitch 0.64mm, IPC Low Density)
pins: 1 AIN6 (in) "Analog Input. Single-ended analog input channel. Input range is 0 V to 2.25 V or 0 V to VDD.", 2 AIN5 (in) "Analog Input. Single-ended analog input channel. Input range is 0 V to 2.25 V or 0 V to VDD.", 3 NC "No Connection.", 4 ~{CS} (in) "SPI-Active Low Control Input. This is the frame synchronization signal for the input data. When C\S\ goes low, it enables the input register and data is transferred in on the rising edges and out on the falling edges of the (See Datasheet)", 5 GND (power) "Ground Reference Point for All Circuitry on the Part. Analog and digital ground.", 6 VDD (power) "Positive Supply Voltage, 2.7 V to 5.5 V. The supply should be decoupled to ground.", 7 D+/AIN1 (in), 8 D-/AIN2 (in), 9 AIN3 (in) "Analog Input. Single-ended analog input channel. Input range is 0 V to 2.25 V or 0 V to VDD.", 10 INT/~{INT} (oc), 11 DOUT/ADD (io), 12 SDA/DIN (io), 13 SCL/SCLK (in), 14 AIN4 (in) "Analog Input. Single-ended analog input channel. Input range is 0 V to 2.25 V or 0 V to VDD.", 15 AIN8 (in) "Analog Input. Single-ended analog input channel. Input range is 0 V to 2.25 V or 0 V to VDD.", 16 AIN7 (in) "Analog Input. Single-ended analog input channel. Input range is 0 V to 2.25 V or 0 V to VDD."

## ADT7411ARQZ-REEL7
designator U?
SPI / I2C Compatible, 10-Bit Digital Temperature Sensor and 8-Channel A / D Converter, 2.7 to 5.5 V Supply, Industrial, 16-pin SOP (RQ-16), Reel; Manufacturer: Analog Devices; PartNumber: ADT7411ARQZ-REEL7; #_ADC_channels: 8; DatasheetVersion: Rev. B; PackageVersion: 08/2005; PackageReference: RQ-16; PackageDescription: 16-Pin Shrink Small Outline Package, Body 4.9 x 3.9 mm, Pitch 0.64 mm; Supplier 1: Digi-Key; Supplier Part Number 1: ADT7411ARQZ-REEL7-ND; Supplier 2: Newark; Supplier Part Number 2: 59K3068; Supplier 3: Mouser; Supplier Part Number 3: 584-ADT7411ARQZ-R7; Packing: Reel; Supply Voltage Range: 2.7 to 5.5 V; Mounting Technology: Surface Mount; Code_JEDEC: MO-137-AB; ComponentLink1Description: Manufacturer URL; ComponentLink1URL: http://www.analog.com/en/index.html; ComponentLink2Description: Datasheet; ComponentLink2URL: http://www.analog.com/static/imported-files/data_sheets/ADT7411.pdf; ComponentLink3Description: Package Specification; ComponentLink3URL: http://www.analog.com/static/imported-files/packages/5595549651201762937RQ_16.pdf; ComponentLink4Description: Product URL; ComponentLink4URL: http://www.analog.com/en/mems-sensors/digital-temperature-sensors/adt7411/products/product.html
footprint ADI-RQ-16_N (SOP, 16-Leads, Body 4.9x3.9mm, Pitch 0.64mm, IPC Medium Density)
footprint ADI-RQ-16_L (SOP, 16-Leads, Body 4.9x3.9mm, Pitch 0.64mm, IPC High Density)
footprint ADI-RQ-16_M (SOP, 16-Leads, Body 4.9x3.9mm, Pitch 0.64mm, IPC Low Density)
pins: 1 AIN6 (in) "Analog Input. Single-ended analog input channel. Input range is 0 V to 2.25 V or 0 V to VDD.", 2 AIN5 (in) "Analog Input. Single-ended analog input channel. Input range is 0 V to 2.25 V or 0 V to VDD.", 3 NC "No Connection.", 4 ~{CS} (in) "SPI-Active Low Control Input. This is the frame synchronization signal for the input data. When C\S\ goes low, it enables the input register and data is transferred in on the rising edges and out on the falling edges of the (See Datasheet)", 5 GND (power) "Ground Reference Point for All Circuitry on the Part. Analog and digital ground.", 6 VDD (power) "Positive Supply Voltage, 2.7 V to 5.5 V. The supply should be decoupled to ground.", 7 D+/AIN1 (in), 8 D-/AIN2 (in), 9 AIN3 (in) "Analog Input. Single-ended analog input channel. Input range is 0 V to 2.25 V or 0 V to VDD.", 10 INT/~{INT} (oc), 11 DOUT/ADD (io), 12 SDA/DIN (io), 13 SCL/SCLK (in), 14 AIN4 (in) "Analog Input. Single-ended analog input channel. Input range is 0 V to 2.25 V or 0 V to VDD.", 15 AIN8 (in) "Analog Input. Single-ended analog input channel. Input range is 0 V to 2.25 V or 0 V to VDD.", 16 AIN7 (in) "Analog Input. Single-ended analog input channel. Input range is 0 V to 2.25 V or 0 V to VDD."

## ADT7420UCPZ-R2
designator U?
+/-0.25 Deg Accurate, 16-Bit Digital I2C Temperature Sensor, 2.7 to 5.5 V Supply, Industrial, 16-pin QFN (CP-16-17), Reel; Manufacturer: Analog Devices; PartNumber: ADT7420UCPZ-R2; DatasheetVersion: Rev. 0; PackageVersion: 08-16-2010-C; PackageReference: CP-16-17; PackageDescription: 16-Pin Lead Frame Chip Scale Package, Body 4 x 4 mm, Pitch 0.65 mm; Supplier 1: Digi-Key; Supplier Part Number 1: ADT7420UCPZ-R2TR-ND; Supplier 2: Digi-Key; Supplier Part Number 2: ADT7420UCPZ-R2CT-ND; Supplier 3: Digi-Key; Supplier Part Number 3: ADT7420UCPZ-R2DKR-ND; Supplier 4: Farnell; Supplier Part Number 4: 2306581; Supplier 5: Farnell; Supplier Part Number 5: 2316795; Supplier 6: Newark; Supplier Part Number 6: 64W2556; Supplier 7: Newark; Supplier Part Number 7: 66W1259; Supplier 8: Mouser; Supplier Part Number 8: 584-ADT7420UCPZ-R2; Packing: Reel; Supply Voltage Range: 2.7 to 5.5 V; Mounting Technology: Surface Mount; Code_JEDEC: MO-220-WGGC; ComponentLink1Description: Manufacturer URL; ComponentLink1URL: http://www.analog.com/en/index.html; ComponentLink2Description: Datasheet; ComponentLink2URL: http://www.analog.com/static/imported-files/data_sheets/ADT7420.pdf; ComponentLink3Description: Package Specification; ComponentLink3URL: http://www.analog.com/static/imported-files/packages/PKG_PDF/LFCSP(CP)/CP_16_17.pdf; ComponentLink4Description: Product URL; ComponentLink4URL: http://www.analog.com/en/mems-sensors/digital-temperature-sensors/adt7420/products/product.html
footprint ADI-CP-16-17_N (QFN, 16-Leads, Body 4x4mm, Pitch 0.65mm, Thermal Pad 2.60x2.60mm, IPC Medium Density)
footprint ADI-CP-16-17_L (QFN, 16-Leads, Body 4x4mm, Pitch 0.65mm, Thermal Pad 2.60x2.60mm, IPC High Density)
footprint ADI-CP-16-17_M (QFN, 16-Leads, Body 4x4mm, Pitch 0.65mm, Thermal Pad 2.60x2.60mm, IPC Low Density)
part A pins: 1 SCL (in) "I2C Serial Clock Input. The serial clock is used to clock in and clock out data to and from any register of the ADT7420. Open-drain configuration. A pull-up resistor is required, typically 10 k ohm.", 2 SDA (io) "I2C Serial Data Input/Output. Serial data to and from the part is provided on this pin. Open-drain configuration. A pull-up resistor is required, typically 10 k ohm", 3 A0 (in) "I2C Serial Bus Address Selection Pin. Logic input. Connect to GND or VDD to set an I2C address.", 4 A1 (in) "I2C Serial Bus Address Selection Pin. Logic input. Connect to GND or VDD to set an I2C address.", 9 INT (oc) "Overtemperature and Undertemperature Indicator. Logic output. Power-up default setting is as an active low comparator interrupt. Open-drain configuration. A pull-up resistor is required, typically 10 k ohm.", 10 CT (oc) "Critical Overtemperature Indicator. Logic output. Power-up default polarity is active low. Open-drain configuration. A pull-up resistor is required, typically 10 k ohm.", 11 GND (power) "Analog and Digital Ground.", 12 VDD (power) "Positive Supply Voltage (2.7 V to 5.5 V). The supply should be decoupled with a 0.1 uF ceramic capacitor to ground.", 17 EP (power) "Exposed Pad. To ensure correct operation, the exposed pad should either be left floating or connected to ground."
part B pins: 5 NC "No Connect. The NC pin is not bonded to the die internally.", 6 NC "No Connect. The NC pin is not bonded to the die internally.", 7 NC "No Connect. The NC pin is not bonded to the die internally.", 8 NC "No Connect. The NC pin is not bonded to the die internally.", 13 NC "No Connect. The NC pin is not bonded to the die internally.", 14 NC "No Connect. The NC pin is not bonded to the die internally.", 15 NC "No Connect. The NC pin is not bonded to the die internally.", 16 NC "No Connect. The NC pin is not bonded to the die internally."

## ADT7420UCPZ-RL7
designator U?
+/-0.25 Deg Accurate, 16-Bit Digital I2C Temperature Sensor, 2.7 to 5.5 V Supply, Industrial, 16-pin QFN (CP-16-17), Reel; Manufacturer: Analog Devices; PartNumber: ADT7420UCPZ-RL7; DatasheetVersion: Rev. 0; PackageVersion: 08-16-2010-C; PackageReference: CP-16-17; PackageDescription: 16-Pin Lead Frame Chip Scale Package, Body 4 x 4 mm, Pitch 0.65 mm; Supplier 1: Digi-Key; Supplier Part Number 1: ADT7420UCPZ-RL7TR-ND; Supplier 2: Digi-Key; Supplier Part Number 2: ADT7420UCPZ-RL7CT-ND; Supplier 3: Digi-Key; Supplier Part Number 3: ADT7420UCPZ-RL7DKR-ND; Supplier 4: Newark; Supplier Part Number 4: 64W2555; Supplier 5: Mouser; Supplier Part Number 5: 584-ADT7420UCPZ-R7; Packing: Reel; Supply Voltage Range: 2.7 to 5.5 V; Mounting Technology: Surface Mount; Code_JEDEC: MO-220-WGGC; ComponentLink1Description: Manufacturer URL; ComponentLink1URL: http://www.analog.com/en/index.html; ComponentLink2Description: Datasheet; ComponentLink2URL: http://www.analog.com/static/imported-files/data_sheets/ADT7420.pdf; ComponentLink3Description: Package Specification; ComponentLink3URL: http://www.analog.com/static/imported-files/packages/PKG_PDF/LFCSP(CP)/CP_16_17.pdf; ComponentLink4Description: Product URL; ComponentLink4URL: http://www.analog.com/en/mems-sensors/digital-temperature-sensors/adt7420/products/product.html
footprint ADI-CP-16-17_N (QFN, 16-Leads, Body 4x4mm, Pitch 0.65mm, Thermal Pad 2.60x2.60mm, IPC Medium Density)
footprint ADI-CP-16-17_L (QFN, 16-Leads, Body 4x4mm, Pitch 0.65mm, Thermal Pad 2.60x2.60mm, IPC High Density)
footprint ADI-CP-16-17_M (QFN, 16-Leads, Body 4x4mm, Pitch 0.65mm, Thermal Pad 2.60x2.60mm, IPC Low Density)
part A pins: 1 SCL (in) "I2C Serial Clock Input. The serial clock is used to clock in and clock out data to and from any register of the ADT7420. Open-drain configuration. A pull-up resistor is required, typically 10 k ohm.", 2 SDA (io) "I2C Serial Data Input/Output. Serial data to and from the part is provided on this pin. Open-drain configuration. A pull-up resistor is required, typically 10 k ohm", 3 A0 (in) "I2C Serial Bus Address Selection Pin. Logic input. Connect to GND or VDD to set an I2C address.", 4 A1 (in) "I2C Serial Bus Address Selection Pin. Logic input. Connect to GND or VDD to set an I2C address.", 9 INT (oc) "Overtemperature and Undertemperature Indicator. Logic output. Power-up default setting is as an active low comparator interrupt. Open-drain configuration. A pull-up resistor is required, typically 10 k ohm.", 10 CT (oc) "Critical Overtemperature Indicator. Logic output. Power-up default polarity is active low. Open-drain configuration. A pull-up resistor is required, typically 10 k ohm.", 11 GND (power) "Analog and Digital Ground.", 12 VDD (power) "Positive Supply Voltage (2.7 V to 5.5 V). The supply should be decoupled with a 0.1 uF ceramic capacitor to ground.", 17 EP (power) "Exposed Pad. To ensure correct operation, the exposed pad should either be left floating or connected to ground."
part B pins: 5 NC "No Connect. The NC pin is not bonded to the die internally.", 6 NC "No Connect. The NC pin is not bonded to the die internally.", 7 NC "No Connect. The NC pin is not bonded to the die internally.", 8 NC "No Connect. The NC pin is not bonded to the die internally.", 13 NC "No Connect. The NC pin is not bonded to the die internally.", 14 NC "No Connect. The NC pin is not bonded to the die internally.", 15 NC "No Connect. The NC pin is not bonded to the die internally.", 16 NC "No Connect. The NC pin is not bonded to the die internally."

## ADT7516ARQ
designator U?
SPI / I2C Compatible Temperature Sensor with 4-Channel ADC and Quad Voltage Output, 2.7 to 5.5 V Supply, Industrial, 16-pin SOP (RQ-16), Tube; Manufacturer: Analog Devices; PartNumber: ADT7516ARQ; #_ADC_channels: 4; DatasheetVersion: Rev. B; PackageVersion: 08/2005; PackageReference: RQ-16; PackageDescription: 16-Pin Shrink Small Outline Package, Body 4.9 x 3.9 mm, Pitch 0.64 mm; Supplier 1: Digi-Key; Supplier Part Number 1: ADT7516ARQ-ND; Supplier 2: Mouser; Supplier Part Number 2: N/A; #_DAC_channels: 4; Packing: Tube; Supply Voltage Range: 2.7 to 5.5 V; Mounting Technology: Surface Mount; Code_JEDEC: MO-137-AB; ComponentLink1Description: Manufacturer URL; ComponentLink1URL: http://www.analog.com/en/index.html; ComponentLink2Description: Datasheet; ComponentLink2URL: http://www.analog.com/static/imported-files/data_sheets/ADT7516_7517_7519.pdf; ComponentLink3Description: Package Specification; ComponentLink3URL: http://www.analog.com/static/imported-files/packages/5595549651201762937RQ_16.pdf; ComponentLink4Description: Product URL; ComponentLink4URL: http://www.analog.com/en/mems-sensors/digital-temperature-sensors/adt7516/products/product.html
footprint ADI-RQ-16_N (SOP, 16-Leads, Body 4.9x3.9mm, Pitch 0.64mm, IPC Medium Density)
footprint ADI-RQ-16_L (SOP, 16-Leads, Body 4.9x3.9mm, Pitch 0.64mm, IPC High Density)
footprint ADI-RQ-16_M (SOP, 16-Leads, Body 4.9x3.9mm, Pitch 0.64mm, IPC Low Density)
pins: 1 VOUT-B (hiz) "Buffered Analog Output Voltage from DAC B. The output amplifier has rail-to-rail operation.", 2 VOUT-A (hiz) "Buffered Analog Output Voltage from DAC A. The output amplifier has rail-to-rail operation.", 3 VREF-IN (in) "Reference Input Pin for All Four DACs. This input is buffered and has an input range from 1 V to VDD.", 4 ~{CS} (in) "SPI Active Low Control Input. This is the frame synchronization signal for the input data. When C\S\ goes low, it enables the input register, and data is transferred in on the rising edges and out on the falling edges of the (See Datasheet)", 5 GND (power) "Ground Reference Point. Ground reference point for all circuitry on the part. Analog and digital ground.", 6 VDD (power) "Positive Supply Voltage, 2.7 V to 5.5 V. The supply should be decoupled to ground.", 7 D+/AIN1 (in), 8 D-/AIN2 (in), 9 ~{LDAC}/AIN3 (in), 10 INT/~{INT} (oc), 11 DOUT/ADD (io), 12 SDA/DIN (io), 13 SCL/SCLK (in), 14 AIN4 (in) "Analog Input. Single-ended analog input channel. Input range is 0 V to 2.28 V or 0 V to VDD.", 15 VOUT-D (hiz) "Buffered Analog Output Voltage from DAC D. The output amplifier has rail-to-rail operation.", 16 VOUT-C (hiz) "Buffered Analog Output Voltage from DAC C. The output amplifier has rail-to-rail operation."